# EAGLE library part UDN2596 (library UDN2596)
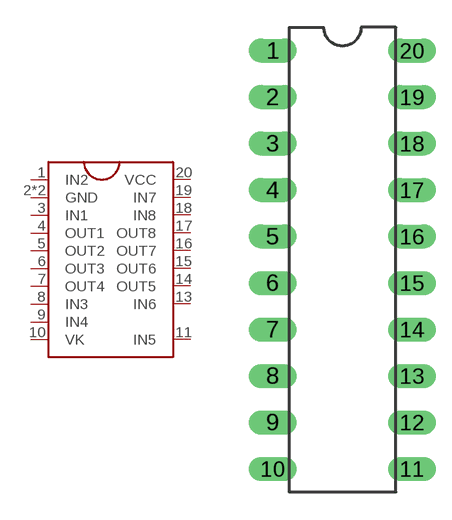
[diagram p0: symbol with the pads of DIL20; footprint DIL20]

Designator prefix -

## UDN2596  [DIL20]
1  IN2
2  GND
3  IN1
4  OUT1
5  OUT2
6  OUT3
7  OUT4
8  IN3
9  IN4
10  VK
11  IN5
12  GND
13  IN6
14  OUT5
15  OUT6
16  OUT7
17  OUT8
18  IN8
19  IN7
20  VCC

## Footprint DIL20 (pad centres in mm)
Dual In Line Package
drill 0.813 long: 1 -3.81,11.43; 2 -3.81,8.89; 3 -3.81,6.35; 4 -3.81,3.81; 5 -3.81,1.27; 6 -3.81,-1.27; 7 -3.81,-3.81; 8 -3.81,-6.35; 9 -3.81,-8.89; 10 -3.81,-11.43; 11 3.81,-11.43; 12 3.81,-8.89; 13 3.81,-6.35; 14 3.81,-3.81; 15 3.81,-1.27; 16 3.81,1.27; 17 3.81,3.81; 18 3.81,6.35; 19 3.81,8.89; 20 3.81,11.43